# Altium footprint library GAN7R0150LBE.PcbLib: 1 footprints
Each footprint in its own frame and in the unit in brackets; x right, y up, seen from the top. Pads: shape width x height; smd on the part's side, far side on the other; paste and mask are expansions set on the pad; w line width, h text height; cw(c..) or ccw(c..) is an arc to the next point about the centre after c.
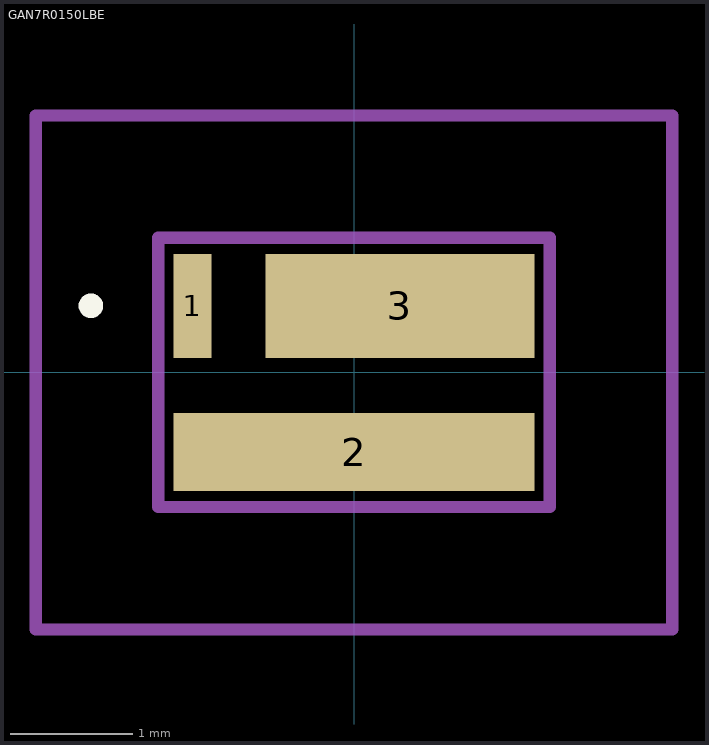
[diagram p0: the footprint, top view; thin cyan lines are the x and y axes]

## GAN7R0150LBE [mm]
pads (3):
  rect 0.31x0.85 smd: 1(-1.32,0.545)
  rect 2.95x0.64 smd: 2(0,-0.65)
  rect 2.2x0.85 smd: 3(0.375,0.545)
Top Overlay:
  lines w0.1: -2.2,0.545 -2.2,0.545 ; -2.2,0.545 ccw(c-2.15,0.545) -2.1,0.545 ; -2.2,0.545 cw(c-2.15,0.545) -2.1,0.545 ; -2.1,0.545 -2.1,0.545
Mechanical 15:
  lines w0.1: -1.6,-1.1 1.6,-1.1 1.6,1.1 -1.6,1.1 -1.6,-1.1
Mechanical 20:
  lines w0.1: -2.6,-2.1 2.6,-2.1 2.6,2.1 -2.6,2.1 -2.6,-2.1